# Altium schematic symbol library Comparators.SchLib: 1 symbol
Pins are listed as number, name and electrical type; pins without a type are passive.

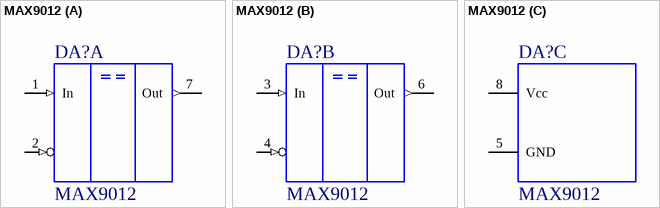
[diagram p0: symbol MAX9012]

## MAX9012
designator DA?
Dual comparators 5nS TTL; ValueSCH: MAX9012
part A pins: 1 In (in), 2 INA- (in), 7 Out (out)
part B pins: 3 In (in), 4 INB- (in), 6 Out (out)
part C pins: 5 GND (power), 8 Vcc (power)